# Altium schematic symbol library HR911105A.Schlib: 1 symbol
Pins are listed as number, name and electrical type; pins without a type are passive.

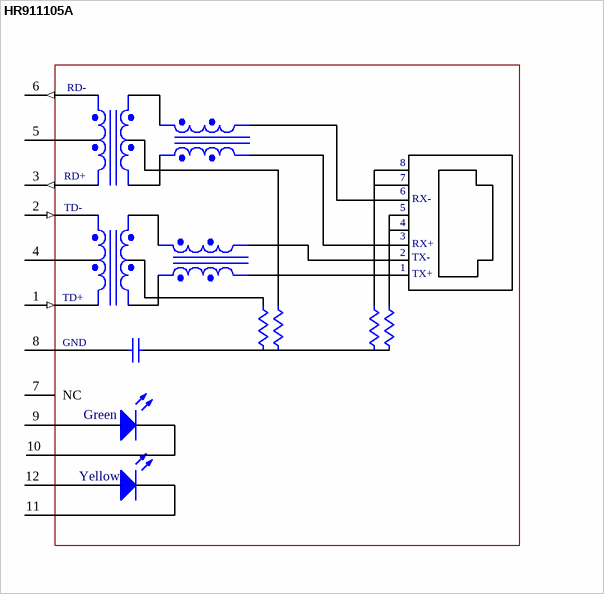
[diagram p0: symbol HR911105A]

## HR911105A
designator CN?
=Description
pins: 1 TD+ (in), 2 TD- (in), 3 RD+ (out), 4, 5, 6 RD- (out), 7 NC, 8 GND (power), 9 (power), 10, 11, 12 (power)
text: RX-; RX+; TX-; TX+; Green; Yellow